# Altium schematic symbol library STM32F4DiscoveryDisplay.SCHLIB: 9 symbols
Pins are listed as number, name and electrical type; pins without a type are passive.

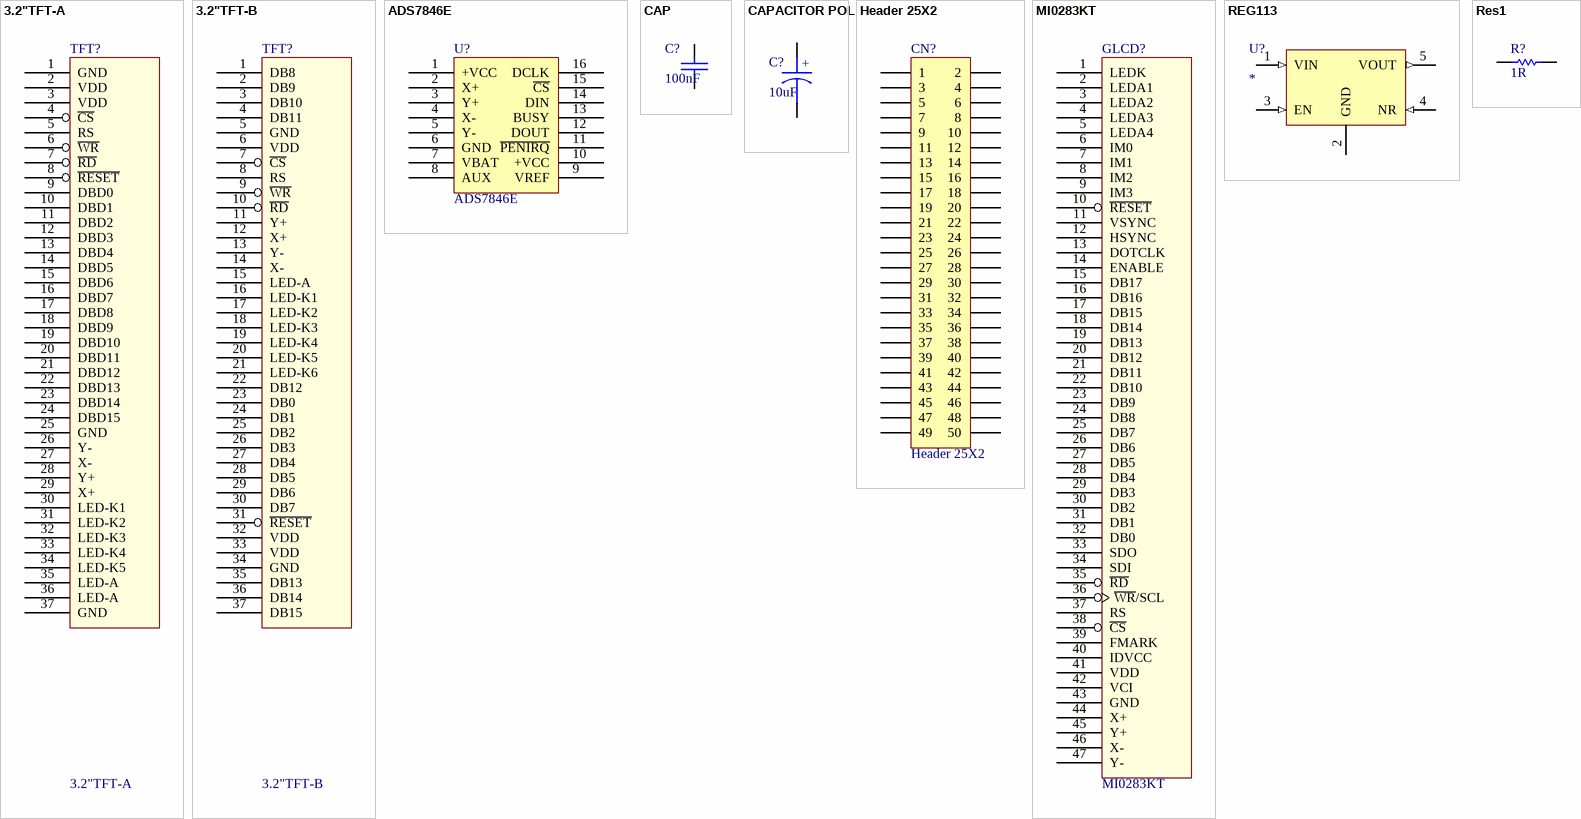
[diagram p0: symbols 3.2"TFT-A to Res1]

## 3.2"TFT-A
designator TFT?
footprint LCD-KWH032Q01-F03
pins: 1 GND (power), 2 VDD, 3 VDD, 4 ~{CS}, 5 RS, 6 ~{WR}, 7 ~{RD}, 8 ~{RESET}, 9 DBD0, 10 DBD1, 11 DBD2, 12 DBD3, 13 DBD4, 14 DBD5, 15 DBD6, 16 DBD7, 17 DBD8, 18 DBD9, 19 DBD10, 20 DBD11, 21 DBD12, 22 DBD13, 23 DBD14, 24 DBD15, 25 GND (power), 26 Y-, 27 X-, 28 Y+, 29 X+, 30 LED-K1, 31 LED-K2, 32 LED-K3, 33 LED-K4, 34 LED-K5, 35 LED-A, 36 LED-A, 37 GND (power)

## 3.2"TFT-B
designator TFT?
footprint LCD-KWH032GM02-F05
pins: 1 DB8 (power), 2 DB9 (power), 3 DB10 (power), 4 DB11 (power), 5 GND (power), 6 VDD, 7 ~{CS}, 8 RS, 9 ~{WR}, 10 ~{RD}, 11 Y+, 12 X+, 13 Y-, 14 X-, 15 LED-A, 16 LED-K1, 17 LED-K2, 18 LED-K3, 19 LED-K4, 20 LED-K5, 21 LED-K6, 22 DB12, 23 DB0, 24 DB1, 25 DB2, 26 DB3, 27 DB4, 28 DB5, 29 DB6, 30 DB7, 31 ~{RESET}, 32 VDD, 33 VDD, 34 GND (power), 35 DB13 (power), 36 DB14 (power), 37 DB15 (power)

## ADS7846E
designator U?
TOUCH SCREEN CONTROLLER 2.2V TO 5.25V OPERATION
footprint SSOP16
pins: 1 +VCC, 2 X+, 3 Y+, 4 X-, 5 Y-, 6 GND, 7 VBAT, 8 AUX, 9 VREF, 10 +VCC, 11 ~{PENIRQ}, 12 DOUT, 13 BUSY, 14 DIN, 15 ~{CS}, 16 DCLK

## CAP
designator C?, comment 100nF
Capacitor
footprint 0603
pins: 1, 2

## CAPACITOR POL
designator C?, comment 10uF
Capacitor
footprint TAN-B
pins: 1, 2
text: +

## Header 25X2
designator CN?
Header, 25-Pin, Dual row; LatestRevisionDate: 17-Jul-2002; LatestRevisionNote: Re-released for DXP Platform.; Publisher: Altium Limited
footprint HDR2X25 (Connector; Header; 25x2 Position)
signal-integrity model Connector
pins: 1, 2, 3, 4, 5, 6, 7, 8, 9, 10, 11, 12, 13, 14, 15, 16, 17, 18, 19, 20, 21, 22, 23, 24, 25, 26, 27, 28, 29, 30, 31, 32, 33, 34, 35, 36, 37, 38, 39, 40, 41, 42, 43, 44, 45, 46, 47, 48, 49, 50

## MI0283KT
designator GLCD?
TFT-G240320UTSW-92W-TP-E
footprint MI0283KT (TFT-G240*320)
pins: 1 LEDK, 2 LEDA1, 3 LEDA2, 4 LEDA3, 5 LEDA4, 6 IM0, 7 IM1, 8 IM2, 9 IM3, 10 ~{RESET}, 11 VSYNC, 12 HSYNC, 13 DOTCLK, 14 ENABLE, 15 DB17, 16 DB16, 17 DB15, 18 DB14, 19 DB13, 20 DB12, 21 DB11, 22 DB10, 23 DB9, 24 DB8, 25 DB7, 26 DB6, 27 DB5, 28 DB4, 29 DB3, 30 DB2, 31 DB1, 32 DB0, 33 SDO, 34 SDI, 35 ~{RD}, 36 ~{WR}/SCL, 37 RS, 38 ~{CS}, 39 FMARK, 40 IDVCC, 41 VDD, 42 VCI, 43 GND, 44 X+, 45 Y+, 46 X-, 47 Y-

## REG113
designator U?
DMOS  400mA Low-Dropout Regulator
footprint SOT95P280X145-5N (SOT23, 5-Leads, Body 3.0x3.0mm (max), Pitch 0.95mm, IPC Medium Density)
pins: 1 VIN (in), 2 GND (power), 3 EN (in), 4 NR (in), 5 VOUT (out)

## Res1
designator R?, comment 1R
Resistor; Value: 1K; Published: 8-Jun-2000; LatestRevisionDate: 17-Jul-2002; LatestRevisionNote: Re-released for DXP Platform.; PackageReference: AXIAL-0.3; Publisher: Altium Limited
footprint AXIAL-0.3 (Resistor; 2 Leads)
simulation model RESISTOR (Resistor)
signal-integrity model Res
pins: 1, 2